# Altium footprint library SEG_pressure gauge_don  V2.4.PcbLib: 15 footprints
Each footprint in its own frame and in the unit in brackets; x right, y up, seen from the top. Pads: shape width x height; smd on the part's side, far side on the other; paste and mask are expansions set on the pad; w line width, h text height; cw(c..) or ccw(c..) is an arc to the next point about the centre after c.
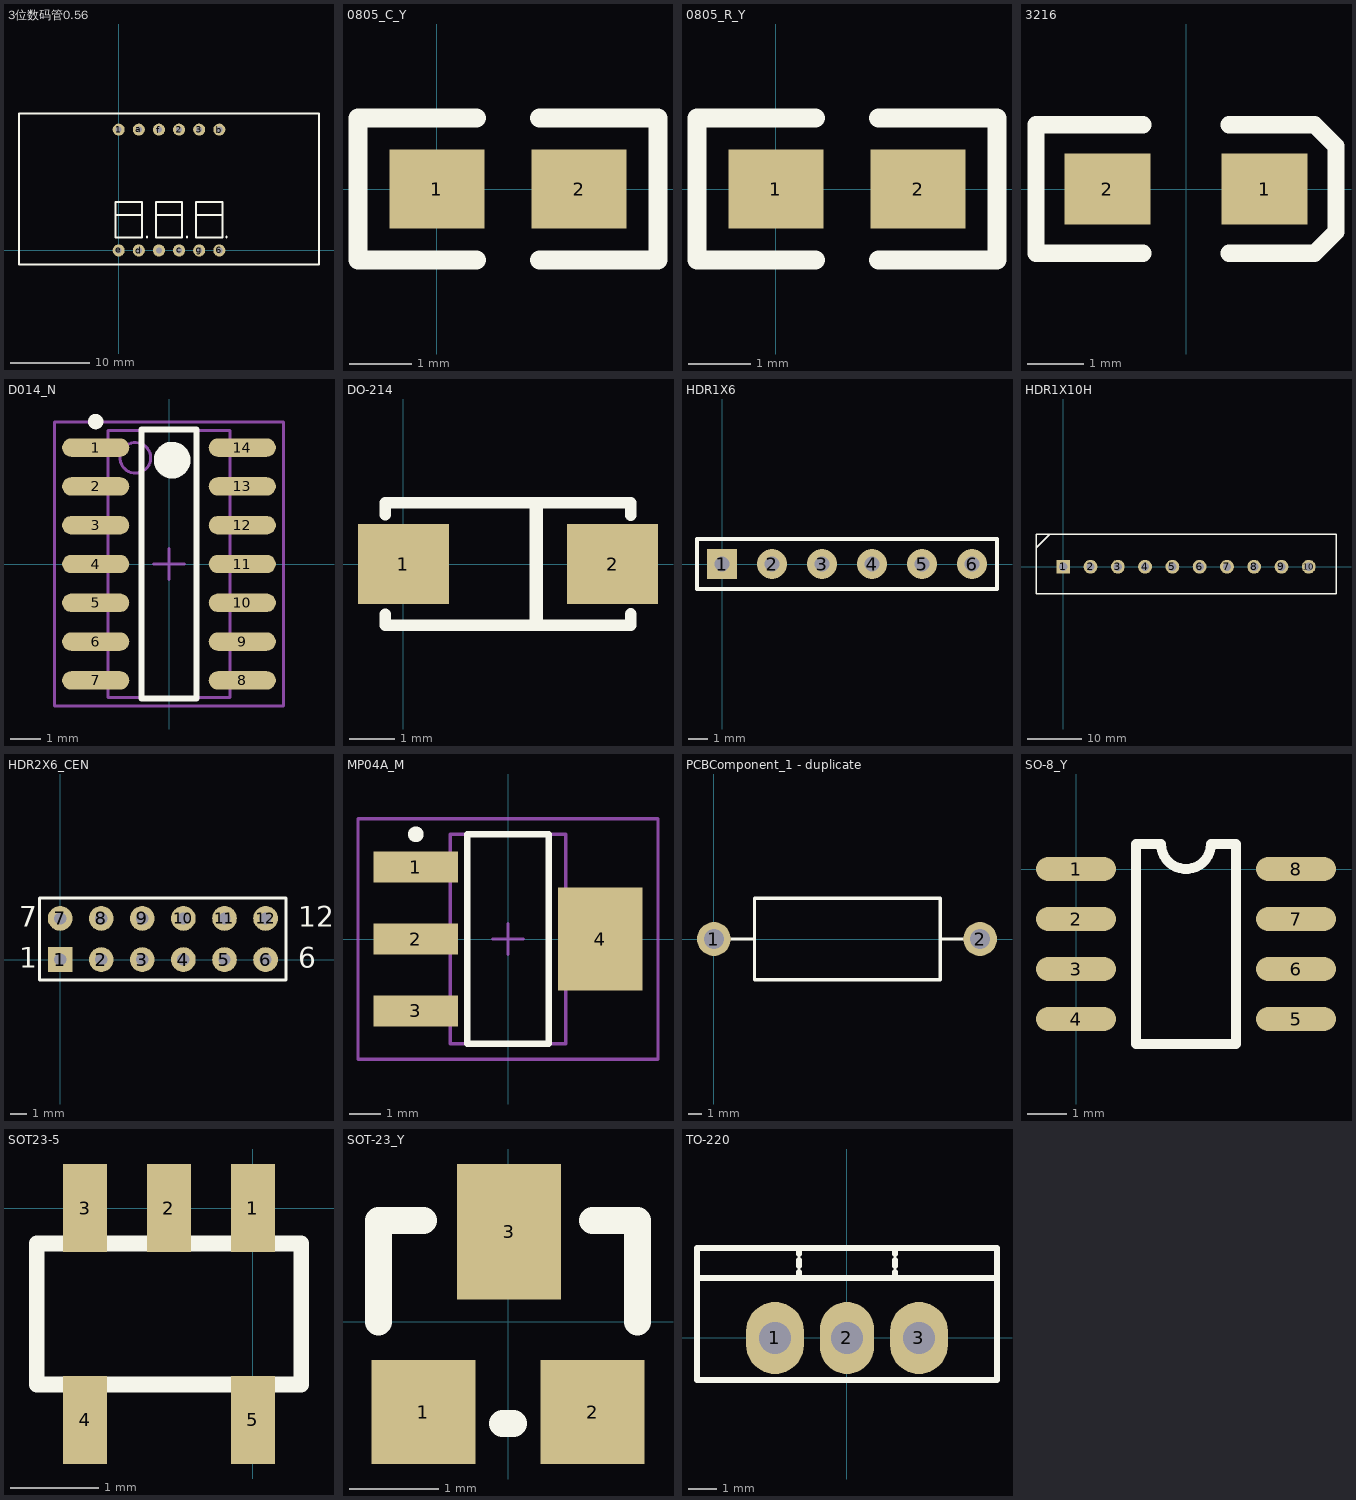
[diagram p0: the footprints below, top view; thin cyan lines are the x and y axes]

## 3位数码管0.56 [mil]
height 196.85
pads (12):
  round 60 hole 30: 1(0,600) 2(300,600) 3(400,600) 6(500,0) a(100,600) b(500,600) c(300,0) d(100,0) dot(200,0) e(0,0) f(200,600) g(400,0)
Top Overlay:
  lines w10: -15,175 115,175 ; 140,65 140,70 ; 185,175 315,175 ; 315,195 315,235 ; 340,65 340,70 ; 385,175 515,175 ; 535,65 535,70 ; -495,-70 -495,680 995,680 995,-70 -495,-70 ; -15,65 115,65 115,135 115,240 -15,240 -15,65 ; 185,65 185,240 315,240 315,135 315,65 185,65 ; 385,65 385,240 515,240 515,135 515,65 385,65

## 0805_C_Y [mil] "0805贴片电容（已加焊）"
pads (2):
  rect 60x50 smd: 1(0,0) 2(90,0)
Top Overlay:
  lines w12: 25,-45 -50,-45 -50,45 25,45 ; 65,-45 140,-45 140,45 65,45
3D body: height 14.17, standoff 0, extent -27.34,-25 117.34,25

## 0805_R_Y [mil] "0805贴片电阻（已加焊）"
pads (2):
  rect 60x50 smd: 1(0,0) 2(90,0)
Top Overlay:
  lines w12: 25,-45 -50,-45 -50,45 25,45 ; 65,-45 140,-45 140,45 65,45
3D body: height 14.17, standoff 0, extent -27.34,-25 117.34,25

## 3216 [mil]
pads (2):
  rect 60x50 smd: 1(55,0) 2(-55,0)
Top Overlay:
  lines w12: -30,-45 -105,-45 -105,45 -30,45 ; 30,-45 90,-45 105,-30 105,30 90,45 30,45
3D body: height 62.99, standoff 0, extent -62.98,-31.5 63,31.5

## D014_N [mm] "SOIC, 14-Leads, Body 8.7x3.9mm, Pitch 1.27mm, IPC Medium Density"
height 1.75
pads (14):
  oval 2.2x0.6 smd: 1(-2.4,3.81) 2(-2.4,2.54) 3(-2.4,1.27) 4(-2.4,0) 5(-2.4,-1.27) 6(-2.4,-2.54) 7(-2.4,-3.81) 8(2.4,-3.81) 9(2.4,-2.54) 10(2.4,-1.27) 11(2.4,0) 12(2.4,1.27) 13(2.4,2.54) 14(2.4,3.81)
Top Overlay:
  circle w0.25: c-2.4,4.66 r0.125
  circle w0.6: c0.1,3.4 r0.3
  lines w0.2: -0.9,-4.4 -0.9,4.4 0.9,4.4 0.9,-4.4 -0.9,-4.4
Mechanical 13:
  circle w0.1: c-1.1,3.475 r0.5
  lines w0.1: -2,-4.375 -2,4.375 2,4.375 2,-4.375 -2,-4.375
Mechanical 15:
  lines w0.1: -0.5,0 0.5,0 ; 0,-0.5 0,0.5 ; -3.75,-4.65 -3.75,4.65 3.75,4.65 3.75,-4.65 -3.75,-4.65
3D body: height 1.75, standoff 0, extent -2,-4.375 2,4.375

## DO-214 [mm]
height 2.7
pads (2):
  rect 2x1.75 smd: 1(0,0) 2(4.6,0)
Top Overlay:
  lines w0.254: -0.4,-1.105 -0.4,-1.35 5,-1.35 5,-1.1 ; -0.4,1.08 -0.4,1.35 4.995,1.35 ; 5,1.075 5,1.35
  lines w0.3: 2.92,-1.3 2.92,1.3
3D body: height 2.12, standoff -0.02, extent -0.198,-1.342 4.908,1.325

## HDR1X6 [mil] "Connector; Header; 6 Position"
pads (6):
  rect 60x60 hole 30: 1(0,0)
  round 60 hole 30: 2(100,0) 3(200,0) 4(300,0) 5(400,0) 6(500,0)
Top Overlay:
  lines w7.87: -50,-50 550,-50 550,50 -50,50 -50,-50

## HDR1X10H [mil] "Connector; Header; 10 Position; Right Angle"
pads (10):
  rect 100x100 hole 60: 1(0,0)
  round 100 hole 60: 2(196.85,0) 3(393.7,0) 4(590.55,0) 5(787.4,0) 6(984.25,0) 7(1181.1,0) 8(1377.95,0) 9(1574.8,0) 10(1771.65,0)
Top Overlay:
  lines w10: -196.85,137.8 -98.43,236.22 ; -196.85,-196.85 1968.5,-196.85 1968.5,236.22 1415,236.22 -196.85,236.22 -196.85,196.85 -196.85,0 -196.85,-196.85

## HDR2X6_CEN [mil] "Connector; Header; 6x2 Position"
pads (12):
  rect 60x60 hole 30: 1(0,0)
  round 60 hole 30: 2(100,0) 3(200,0) 4(300,0) 5(400,0) 6(500,0) 7(0,100) 8(100,100) 9(200,100) 10(300,100) 11(400,100) 12(500,100)
Top Overlay:
  lines w7.87: -50,-50 550,-50 550,150 -50,150 -50,-50
  text "12" at 580,80 h50
  text "6" at 580,-20 h50
  text "1" at -100,-20 h50
  text "7" at -100,80 h50

## MP04A_M [mm] "SOT223, 4-Leads, Body 6.5x3.5mm, Pitch 2.3mm, Lead Span 7mm, IPC Low Density"
height 1.8
pads (4):
  rect 2.7x1 smd: 1(-2.95,2.3) 2(-2.95,0) 3(-2.95,-2.3)
  rect 2.7x3.3 smd: 4(2.95,0)
Top Overlay:
  circle w0.25: c-2.95,3.35 r0.125
  lines w0.2: -1.3,-3.35 1.3,-3.35 1.3,3.35 -1.3,3.35 -1.3,-3.35
Mechanical 13:
  lines w0.1: -1.85,-3.35 1.85,-3.35 1.85,3.35 -1.85,3.35 -1.85,-3.35
Mechanical 15:
  lines w0.1: -0.5,0 0.5,0 ; 0,-0.5 0,0.5 ; -4.8,-3.85 4.8,-3.85 4.8,3.85 -4.8,3.85 -4.8,-3.85
3D body: height 1.8, standoff 0, extent -1.85,-3.35 1.85,3.35

## PCBComponent_1 - duplicate [mil]
pads (2):
  round 100 hole 60: 1(0,0) 2(787.4,0)
Top Overlay:
  lines w10: 40,0 120,0 ; 670,0 745,0 ; 120,0 120,10 120,120 670,120 670,-120 120,-120 120,0
3D body: height 208.35, standoff -59.7, extent -32.79,-105 802.79,91.47

## SO-8_Y [mil] "AD780AR（已加焊）"
pads (8):
  oval 80x24 smd: 1(0,0) 2(0,-50) 3(0,-100) 4(0,-150) 5(220,-150) 6(220,-100) 7(220,-50) 8(220,0)
Top Overlay:
  lines w10: 60,-175 160,-175 160,25 135,25 cw(c110,25) 85,25 60,25 60,-175
3D body: height 68.9, standoff 0, extent -39.96,-173.62 259.69,23.23

## SOT23-5 [mm]
pads (5):
  rect 0.5x1 smd: 1(0,0) 2(-0.95,0) 3(-1.9,0) 4(-1.9,-2.4) 5(0,-2.4)
Top Overlay:
  lines w0.178: -2.45,-2 -2.45,-0.4 0.55,-0.4 0.55,-2 -2.45,-2
3D body: height 1.09, standoff -0.01, extent -2.399,-2.599 0.5,0.201

## SOT-23_Y [mil] "IMP809T（已加焊）"
pads (3):
  rect 46x46 smd: 1(-37.5,-40) 2(37.5,-40)
  rect 46x60 smd: 3(0.5,40)
Top Overlay:
  lines w12: -57.5,0 -57.5,45 -37.5,45 ; -2.5,-45 2.5,-45 ; 37.5,45 57.5,45 57.5,0
3D body: height 39.37, standoff -0.07, extent -60.32,-62.99 60.72,70.01

## TO-220 [mil]
pads (3):
  oval 80x100 hole 45: 1(-100,0) 3(100,0)
  oval 75x100 hole 45: 2(0,0)
Top Overlay:
  lines w7.87: -66.67,83.33 -66.67,91.67 ; -66.67,100 -66.67,108.33 ; -66.67,116.67 -66.67,125 ; 66.67,83.33 66.67,91.67 ; 66.67,100 66.67,108.33 ; 66.67,116.67 66.67,125 ; -208.33,83.33 -208.33,125 208.33,125 208.33,83.33 ; -208.33,83.33 -208.33,-58.33 208.33,-58.33 208.33,83.33 ; -208.33,83.33 208.33,83.33
3D body: height 729.92, standoff -51.18, extent -196.26,-75.2 196.26,100